# EAGLE library part STM32F0DISCOVERY (library marius)
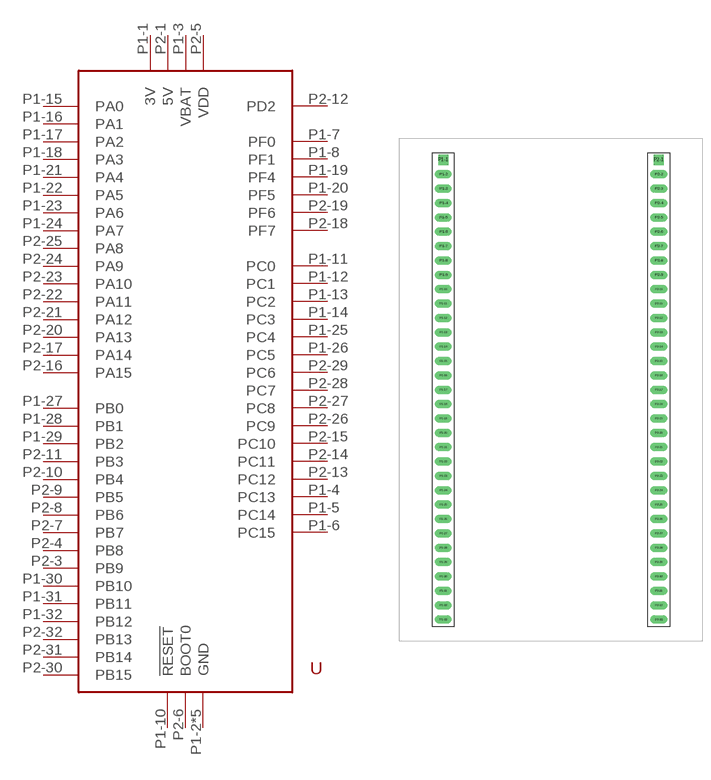
[diagram p8: symbol with the pads of DIP3810W53P254L8890H1200Q66B; footprint DIP3810W53P254L8890H1200Q66B]

Designator prefix U

## STM32F0DISCOVERYSTM32F0DISCOVERY  [DIP3810W53P254L8890H1200Q66B]
P1-1  3V
P1-2  GND
P1-3  VBAT
P1-4  PC13
P1-5  PC14
P1-6  PC15
P1-7  PF0
P1-8  PF1
P1-9  GND
P1-10  !RESET
P1-11  PC0
P1-12  PC1
P1-13  PC2
P1-14  PC3
P1-15  PA0
P1-16  PA1
P1-17  PA2
P1-18  PA3
P1-19  PF4
P1-20  PF5
P1-21  PA4
P1-22  PA5
P1-23  PA6
P1-24  PA7
P1-25  PC4
P1-26  PC5
P1-27  PB0
P1-28  PB1
P1-29  PB2
P1-30  PB10
P1-31  PB11
P1-32  PB12
P1-33  GND
P2-1  5V
P2-2  GND
P2-3  PB9
P2-4  PB8
P2-5  VDD
P2-6  BOOT0
P2-7  PB7
P2-8  PB6
P2-9  PB5
P2-10  PB4
P2-11  PB3
P2-12  PD2
P2-13  PC12
P2-14  PC11
P2-15  PC10
P2-16  PA15
P2-17  PA14
P2-18  PF7
P2-19  PF6
P2-20  PA13
P2-21  PA12
P2-22  PA11
P2-23  PA10
P2-24  PA9
P2-25  PA8
P2-26  PC9
P2-27  PC8
P2-28  PC7
P2-29  PC6
P2-30  PB15
P2-31  PB14
P2-32  PB13
P2-33  GND

## Footprint DIP3810W53P254L8890H1200Q66B (pad centres in mm)
66-DIP, 2.54 mm (0.10 in) pitch, 38.10 mm (1.50 in) span, 88.90 X 53.54 X 12.00 mm body 66-pin DIP package with 2.54 mm (0.10 in) pitch, 38.10 mm (1.50 in) span with body size 88.90 X 53.54 X 12.00 mm
drill 1 pad 1.8 square: P1-1 -19.05,40.64; P2-1 19.05,40.64
drill 1 long: P1-2 -19.05,38.1; P1-3 -19.05,35.56; P1-4 -19.05,33.02; P1-5 -19.05,30.48; P1-6 -19.05,27.94; P1-7 -19.05,25.4; P1-8 -19.05,22.86; P1-9 -19.05,20.32; P1-10 -19.05,17.78; P1-11 -19.05,15.24; P1-12 -19.05,12.7; P1-13 -19.05,10.16; P1-14 -19.05,7.62; P1-15 -19.05,5.08; P1-16 -19.05,2.54; P1-17 -19.05,0; P1-18 -19.05,-2.54; P1-19 -19.05,-5.08; P1-20 -19.05,-7.62; P1-21 -19.05,-10.16; P1-22 -19.05,-12.7; P1-23 -19.05,-15.24; P1-24 -19.05,-17.78; P1-25 -19.05,-20.32; P1-26 -19.05,-22.86; P1-27 -19.05,-25.4; P1-28 -19.05,-27.94; P1-29 -19.05,-30.48; P1-30 -19.05,-33.02; P1-31 -19.05,-35.56; P1-32 -19.05,-38.1; P1-33 -19.05,-40.64; P2-2 19.05,38.1; P2-3 19.05,35.56; P2-4 19.05,33.02; P2-5 19.05,30.48; P2-6 19.05,27.94; P2-7 19.05,25.4; P2-8 19.05,22.86; P2-9 19.05,20.32; P2-10 19.05,17.78; P2-11 19.05,15.24; P2-12 19.05,12.7; P2-13 19.05,10.16; P2-14 19.05,7.62; P2-15 19.05,5.08; P2-16 19.05,2.54; P2-17 19.05,0; P2-18 19.05,-2.54; P2-19 19.05,-5.08; P2-20 19.05,-7.62; P2-21 19.05,-10.16; P2-22 19.05,-12.7; P2-23 19.05,-15.24; P2-24 19.05,-17.78; P2-25 19.05,-20.32; P2-26 19.05,-22.86; P2-27 19.05,-25.4; P2-28 19.05,-27.94; P2-29 19.05,-30.48; P2-30 19.05,-33.02; P2-31 19.05,-35.56; P2-32 19.05,-38.1; P2-33 19.05,-40.64